# EAGLE library part LPC1778/88-LQFP208 (library microbuilder)
LPC1778/88 - ARM Cortex M3 - 120MHz, 512KB Flash, 96KB SRAM, 4KB EEPROM External Memory Controller LCD Controller 10/100 Ethernet USB 2.0 Host/Device/OTG 2 CAN 12-bit ADC 10-bit DAC SD/MMC I2S
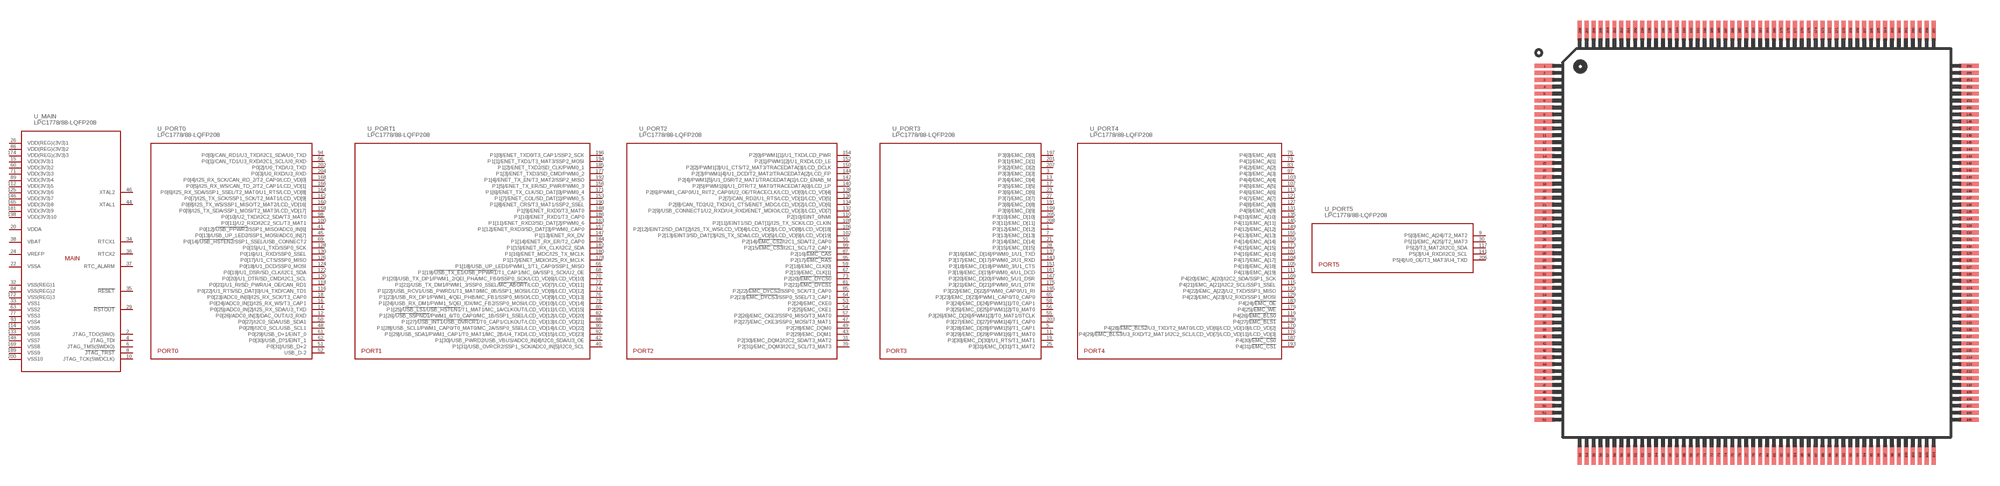
[diagram p133: symbol with the pads of LQFP208; footprint LQFP208]

Designator prefix U; gates _MAIN=LPC1788_PWR-208 _PORT0=LPC1788_PORT0-208 _PORT1=LPC1788_PORT1-208 _PORT2=LPC1788_PORT2-208 _PORT3=LPC1788_PORT3-208 _PORT4=LPC1788_PORT4-208 _PORT5=LPC1788_PORT5-208

## LPC1778/88-LQFP208  [LQFP208]
1  _PORT3:P3[12]/EMC_D[12]
2  _MAIN:JTAG_TDO(SWO)
3  _PORT3:P3[3]/EMC_D[3]
4  _MAIN:JTAG_TDI
5  _PORT3:P3[28]/EMC_D[28]/PWM1[5]/T1_CAP1
6  _MAIN:JTAG_TMS(SWDIO)
7  _PORT3:P3[13]/EMC_D[13]
8  _MAIN:!JTAG_TRST!
9  _PORT5:P5[0]/EMC_A[24]/T2_MAT2
10  _MAIN:JTAG_TCK(SWDCLK)
11  _PORT3:P3[29]/EMC_D[29]/PWM1[6]/T1_MAT0
12  _PORT0:P0[26]/ADC0_IN[3]/DAC_OUT/U3_RXD
13  _PORT3:P3[4]/EMC_D[4]
14  _PORT0:P0[25]/ADC0_IN[2]/I2S_RX_SDA/U3_TXD
15  _MAIN:VDD(3V3)1
16  _PORT0:P0[24]/ADC0_IN[1]/I2S_RX_WS/T3_CAP1
17  _PORT3:P3[5]/EMC_D[5]
18  _PORT0:P0[23]/ADC0_IN[0]/I2S_RX_SCK/T3_CAP0
19  _PORT3:P3[30]/EMC_D[30]/U1_RTS/T1_MAT1
20  _MAIN:VDDA
21  _PORT3:P3[14]/EMC_D[14]
22  _MAIN:VSSA
23  _PORT3:P3[6]/EMC_D[6]
24  _MAIN:VREFP
25  _PORT3:P3[31]/EMC_D[31]/T1_MAT2
26  _MAIN:VDD(REG)(3V3)1
27  _PORT3:P3[7]/EMC_D[7]
28  _PORT3:P3[15]/EMC_D[15]
29  _MAIN:!RSTOUT!
30  _PORT5:P5[1]/EMC_A[25]/T2_MAT3
31  _PORT2:P2[30]/EMC_DQM2/I2C2_SDA/T3_MAT2
32  _MAIN:VSS(REG)1
33  _MAIN:VSS1
34  _MAIN:RTCX1
35  _MAIN:!RESET!
36  _MAIN:RTCX2
37  _MAIN:RTC_ALARM
38  _MAIN:VBAT
39  _PORT2:P2[31]/EMC_DQM3/I2C2_SCL/T3_MAT3
40  _PORT1:P1[31]/USB_OVRCR2/SSP1_SCK/ADC0_IN[5]/I2C0_SCL
41  _PORT0:P0[12]/!USB_PPWR2!/SSP1_MISO/ADC0_IN[6]
42  _PORT1:P1[30]/USB_PWRD2/USB_VBUS/ADC0_IN[4]/I2C0_SDA/U3_OE
43  _PORT2:P2[29]/EMC_DQM1
44  _MAIN:XTAL1
45  _PORT0:P0[13]/USB_UP_LED2/SSP1_MOSI/ADC0_IN[7]
46  _MAIN:XTAL2
47  _PORT2:P2[27]/EMC_CKE3/SSP0_MOSI/T3_MAT1
48  _PORT0:P0[28]/I2C0_SCL/USB_SCL1
49  _PORT2:P2[28]/EMC_DQM0
50  _PORT0:P0[27]/I2C0_SDA/USB_SDA1
51  _PORT0:P0[31]/USB_D+2
52  _PORT0:USB_D-2
53  _PORT2:P2[24]/EMC_CKE0
54  _PORT2:P2[25]/EMC_CKE1
55  _PORT3:P3[26]/EMC_D[26]/PWM1[3]/T0_MAT1/STCLK
56  _PORT3:P3[25]/EMC_D[25]/PWM1[2]/T0_MAT0
57  _PORT2:P2[26]/EMC_CKE2/SSP0_MISO/T3_MAT0
58  _PORT3:P3[24]/EMC_D[24]/PWM1[1]/T0_CAP1
59  _PORT2:P2[18]/EMC_CLK[0]
60  _MAIN:VDD(3V3)2
61  _PORT0:P0[29]/USB_D+1/EINT_0
62  _PORT0:P0[30]/USB_D?1/EINT_1
63  _MAIN:VSS2
64  _PORT2:P2[23]/!EMC_DYCS3!/SSP0_SSEL/T3_CAP1
65  _PORT3:P3[23]/EMC_D[23]/PWM1_CAP0/T0_CAP0
66  _PORT1:P1[18]/USB_UP_LED1/PWM1_1/T1_CAP0/SSP1_MISO
67  _PORT2:P2[19]/EMC_CLK[1]
68  _PORT1:P1[19]/!USB_TX_E1!/!USB_PPWR1!/T1_CAP1/MC_0A/SSP1_SCK/U2_OE
69  _PORT0:P0[14]/!USB_HSTEN2!/SSP1_SSEL/USB_CONNECT2
70  _PORT1:P1[20]/USB_TX_DP1/PWM1_2/QEI_PHA/MC_FB0/SSP0_SCK/LCD_VD[6]/LCD_VD[10]
71  _MAIN:VDD(3V3)3
72  _PORT1:P1[21]/USB_TX_DM1/PWM1_3/SSP0_SSEL/!MC_ABORT!/LCD_VD[7]/LCD_VD[11]
73  _PORT2:P2[20]/!EMC_DYCS0!
74  _PORT1:P1[22]/USB_RCV1/USB_PWRD1/T1_MAT0/MC_0B/SSP1_MOSI/LCD_VD[8]/LCD_VD[12]
75  _PORT4:P4[0]/EMC_A[0]
76  _PORT1:P1[23]/USB_RX_DP1/PWM1_4/QEI_PHB/MC_FB1/SSP0_MISO/LCD_VD[9]/LCD_VD[13]
77  _MAIN:VSS3
78  _PORT1:P1[24]/USB_RX_DM1/PWM1_5/QEI_IDX/MC_FB2/SSP0_MOSI/LCD_VD[10]/LCD_VD[14]
79  _PORT4:P4[1]/EMC_A[1]
80  _PORT1:P1[25]/!USB_LS1!/!USB_HSTEN1!/T1_MAT1/MC_1A/CLKOUT/LCD_VD[11]/LCD_VD[15]
81  _PORT2:P2[21]/!EMC_DYCS1!
82  _PORT1:P1[26]/!USB_SSPND1!/PWM1_6/T0_CAP0/MC_1B/SSP1_SSEL/LCD_VD[12]/LCD_VD[20]
83  _PORT4:P4[2]/EMC_A[2]
84  _MAIN:VSS(REG)2
85  _PORT2:P2[22]/!EMC_DYCS2!/SSP0_SCK/T3_CAP0
86  _MAIN:VDD(REG)(3V3)2
87  _PORT2:P2[16]/!EMC_CAS!
88  _PORT1:P1[27]/!USB_INT1!/!USB_OVRCR1!/T0_CAP1/CLKOUT/LCD_VD[13]/LCD_VD[21]
89  _MAIN:VDD(3V3)4
90  _PORT1:P1[28]/USB_SCL1/PWM1_CAP0/T0_MAT0/MC_2A/SSP0_SSEL/LCD_VD[14]/LCD_VD[22]
91  _PORT2:P2[14]/!EMC_CS2!/I2C1_SDA/T2_CAP0
92  _PORT1:P1[29]/USB_SDA1/PWM1_CAP1/T0_MAT1/MC_2B/U4_TXD/LCD_VD[15]/LCD_VD[23]
93  _MAIN:VSS4
94  _PORT0:P0[0]/CAN_RD1/U3_TXD/I2C1_SDA/U0_TXD
95  _PORT2:P2[17]/!EMC_RAS!
96  _PORT0:P0[1]/CAN_TD1/U3_RXD/I2C1_SCL/U0_RXD
97  _PORT4:P4[3]/EMC_A[3]
98  _PORT0:P0[10]/U2_TXD/I2C2_SDA/T3_MAT0
99  _PORT2:P2[15/!EMC_CS3!/I2C1_SCL/T2_CAP1
100  _PORT0:P0[11]/U2_RXD/I2C2_SCL/T3_MAT1
101  _PORT4:P4[16]/EMC_A[16]
102  _PORT2:P2[13]/EINT3/SD_DAT[3]/I2S_TX_SDA/LCD_VD[5]/LCD_VD[9]/LCD_VD[19]
103  _PORT4:P4[4]/EMC_A[4]
104  _PORT4:P4[17]/EMC_A[17]
105  _PORT4:P4[18]/EMC_A[18]
106  _PORT2:P2[12]/EINT2/SD_DAT[2]/I2S_TX_WS/LCD_VD[4]/LCD_VD[3]/LCD_VD[8]/LCD_VD[18]
107  _PORT4:P4[5]/EMC_A[5]
108  _PORT2:P2[11]/EINT1/SD_DAT[1]/I2S_TX_SCK/LCD_CLKIN
109  _PORT4:P4[20]/EMC_A[20]/I2C2_SDA/SSP1_SCK
110  _PORT2:P2[10]/EINT_0/NMI
111  _PORT4:P4[19]/EMC_A[19]
112  _MAIN:VDD(3V3)5
113  _PORT4:P4[6]/EMC_A[6]
114  _MAIN:VSS5
115  _PORT4:P4[21]/EMC_A[21]/I2C2_SCL/SSP1_SSEL
116  _PORT0:P0[22]/U1_RTS/SD_DAT[0]/U4_TXD/CAN_TD1
117  _PORT5:P5[2]/T3_MAT2/I2C0_SDA
118  _PORT0:P0[21]/U1_RI/SD_PWR/U4_OE/CAN_RD1
119  _PORT4:P4[26]/!EMC_BLS0!
120  _PORT0:P0[20]/U1_DTR/SD_CMD/I2C1_SCL
121  _PORT4:P4[7]/EMC_A[7]
122  _PORT0:P0[19]/U1_DSR/SD_CLK/I2C1_SDA
123  _PORT4:P4[22]/EMC_A[22]/U2_TXD/SSP1_MISO
124  _PORT0:P0[18]/U1_DCD/SSP0_MOSI
125  _MAIN:VDD(3V3)6
126  _PORT0:P0[17]/U1_CTS/SSP0_MISO
127  _PORT4:P4[8]/EMC_A[8]
128  _PORT0:P0[15]/U1_TXD/SSP0_SCK
129  _PORT4:P4[23]/EMC_A[23]/U2_RXD/SSP1_MOSI
130  _PORT0:P0[16]/U1_RXD/SSP0_SSEL
131  _PORT4:P4[9]/EMC_A[9]
132  _PORT2:P2[9]/USB_CONNECT1/U2_RXD/U4_RXD/ENET_MDIO/LCD_VD[3]/LCD_VD[7]
133  _MAIN:VSS6
134  _PORT2:P2[8]/CAN_TD2/U2_TXD/U1_CTS/ENET_MDC/LCD_VD[2]/LCD_VD[6]
135  _PORT4:P4[10]/EMC_A[10]
136  _PORT2:P2[7]/CAN_RD2/U1_RTS/LCD_VD[1]/LCD_VD[5]
137  _PORT3:P3[16]/EMC_D[16]/PWM0_1/U1_TXD
138  _PORT2:P2[6]/PWM1_CAP0/U1_RI/T2_CAP0/U2_OE/TRACECLK/LCD_VD[0]/LCD_VD[4]
139  _PORT4:P4[27]/!EMC_BLS1!
140  _PORT2:P2[5]/PWM1[6]/U1_DTR/T2_MAT0/TRACEDATA[0]/LCD_LP
141  _PORT5:P5[3]/U4_RXD/I2C0_SCL
142  _PORT2:P2[4]/PWM1[5]/U1_DSR/T2_MAT1/TRACEDATA[1]/LCD_ENAB_M
143  _PORT3:P3[17]/EMC_D[17]/PWM0_2/U1_RXD
144  _PORT2:P2[3]/PWM1[4]/U1_DCD/T2_MAT2/TRACEDATA[2]/LCD_FP
145  _PORT4:P4[11]/EMC_A[11]
146  _MAIN:VDD(3V3)7
147  _PORT1:P1[13]/ENET_RX_DV
148  _MAIN:VSS7
149  _PORT4:P4[12]/EMC_A[12]
150  _PORT2:P2[2]/PWM1[3]/U1_CTS/T2_MAT3/TRACEDATA[3]/LCD_DCLK
151  _PORT3:P3[18]/EMC_D[18]/PWM0_3/U1_CTS
152  _PORT2:P2[1]/PWM1[2]/U1_RXD/LCD_LE
153  _PORT1:P1[7]/ENET_COL/SD_DAT[1]/PWM0_5
154  _PORT2:P2[0]/PWM1[1]/U1_TXD/LCD_PWR
155  _PORT4:P4[13]/EMC_A[13]
156  _PORT1:P1[5]/ENET_TX_ER/SD_PWR/PWM0_3
157  _PORT1:P1[12]/ENET_RXD3/SD_DAT[3]/PWM0_CAP0
158  _PORT0:P0[9]/I2S_TX_SDA/SSP1_MOSI/T2_MAT3/LCD_VD[17]
159  _PORT4:P4[14]/EMC_A[14]
160  _PORT0:P0[8]/I2S_TX_WS/SSP1_MISO/T2_MAT2/LCD_VD[16]
161  _PORT3:P3[19]/EMC_D[19]/PWM0_4/U1_DCD
162  _PORT0:P0[7]/I2S_TX_SCK/SSP1_SCK/T2_MAT1/LCD_VD[9]
163  _PORT1:P1[11]/ENET_RXD2/SD_DAT[2]/PWM0_6
164  _PORT0:P0[6]/I2S_RX_SDA/SSP1_SSEL/T2_MAT0/U1_RTS/LCD_VD[8]
165  _MAIN:VDD(3V3)8
166  _PORT0:P0[5]/I2S_RX_WS/CAN_TD_2/T2_CAP1/LCD_VD[1]
167  _PORT3:P3[20]/EMC_D[20]/PWM0_5/U1_DSR
168  _PORT0:P0[4]/I2S_RX_SCK/CAN_RD_2/T2_CAP0/LCD_VD[0]
169  _MAIN:VSS8
170  _PORT4:P4[28]/!EMC_BLS2!/U3_TXD/T2_MAT0/LCD_VD[6]/LCD_VD[10]/LCD_VD[2]
171  _PORT1:P1[6]/ENET_TX_CLK/SD_DAT[0]/PWM0_4
172  _MAIN:VSS(REG)3
173  _PORT4:P4[15]/EMC_A[15]
174  _MAIN:VDD(REG)(3V3)3
175  _PORT3:P3[21]/EMC_D[21]/PWM0_6/U1_DTR
176  _PORT4:P4[29]/!EMC_BLS3!/U3_RXD/T2_MAT1/I2C2_SCL/LCD_VD[7]/LCD_VD[11]/LCD_VD[3]
177  _PORT1:P1[3]/ENET_TXD3/SD_CMD/PWM0_2
178  _PORT1:P1[17]/ENET_MDIO/I2S_RX_MCLK
179  _PORT4:P4[25]/!EMC_WE!
180  _PORT1:P1[16]/ENET_MDC/I2S_TX_MCLK
181  _MAIN:VDD(3V3)9
182  _PORT1:P1[15]/ENET_RX_CLK/I2C2_SDA
183  _PORT4:P4[24]/!EMC_OE!
184  _PORT1:P1[14]/ENET_RX_ER/T2_CAP0
185  _PORT1:P1[2]/ENET_TXD2/SD_CLK/PWM0_1
186  _PORT1:P1[10]/ENET_RXD1/T3_CAP0
187  _PORT4:P4[30]/!EMC_CS0!
188  _PORT1:P1[9]/ENET_RXD0/T3_MAT0
189  _MAIN:VSS9
190  _PORT1:P1[8]/ENET_CRS/T3_MAT1/SSP2_SSEL
191  _PORT3:P3[8]/EMC_D[8]
192  _PORT1:P1[4]/ENET_TX_EN/T3_MAT2/SSP2_MISO
193  _PORT4:P4[31]/!EMC_CS1!
194  _PORT1:P1[1]/ENET_TXD1/T3_MAT3/SSP2_MOSI
195  _PORT3:P3[22]/EMC_D[22]/PWM0_CAP0/U1_RI
196  _PORT1:P1[0]/ENET_TXD0/T3_CAP1/SSP2_SCK
197  _PORT3:P3[0]/EMC_D[0]
198  _MAIN:VDD(3V3)10
199  _PORT3:P3[9]/EMC_D[9]
200  _MAIN:VSS10
201  _PORT3:P3[1]/EMC_D[1]
202  _PORT0:P0[2]/U0_TXD/U3_TXD
203  _PORT3:P3[27]/EMC_D[27]/PWM1[4]/T1_CAP0
204  _PORT0:P0[3]/U0_RXD/U3_RXD
205  _PORT3:P3[10]/EMC_D[10]
206  _PORT5:P5[4]/U0_OE/T3_MAT3/U4_TXD
207  _PORT3:P3[2]/EMC_D[2]
208  _PORT3:P3[11]/EMC_D[11]

## Footprint LQFP208 (pad centres in mm)
smd 1.4 x 0.29: 1 -15.3,12.75; 2 -15.3,12.25; 3 -15.3,11.75; 4 -15.3,11.25; 5 -15.3,10.75; 6 -15.3,10.25; 7 -15.3,9.75; 8 -15.3,9.25; 9 -15.3,8.75; 10 -15.3,8.25; 11 -15.3,7.75; 12 -15.3,7.25; 13 -15.3,6.75; 14 -15.3,6.25; 15 -15.3,5.75; 16 -15.3,5.25; 17 -15.3,4.75; 18 -15.3,4.25; 19 -15.3,3.75; 20 -15.3,3.25; 21 -15.3,2.75; 22 -15.3,2.25; 23 -15.3,1.75; 24 -15.3,1.25; 25 -15.3,0.75; 26 -15.3,0.25; 27 -15.3,-0.25; 28 -15.3,-0.75; 29 -15.3,-1.25; 30 -15.3,-1.75; 31 -15.3,-2.25; 32 -15.3,-2.75; 33 -15.3,-3.25; 34 -15.3,-3.75; 35 -15.3,-4.25; 36 -15.3,-4.75; 37 -15.3,-5.25; 38 -15.3,-5.75; 39 -15.3,-6.25; 40 -15.3,-6.75; 41 -15.3,-7.25; 42 -15.3,-7.75; 43 -15.3,-8.25; 44 -15.3,-8.75; 45 -15.3,-9.25; 46 -15.3,-9.75; 47 -15.3,-10.25; 48 -15.3,-10.75; 49 -15.3,-11.25; 50 -15.3,-11.75; 51 -15.3,-12.25; 52 -15.3,-12.75; 105 15.3,-12.75; 106 15.3,-12.25; 107 15.3,-11.75; 108 15.3,-11.25; 109 15.3,-10.75; 110 15.3,-10.25; 111 15.3,-9.75; 112 15.3,-9.25; 113 15.3,-8.75; 114 15.3,-8.25; 115 15.3,-7.75; 116 15.3,-7.25; 117 15.3,-6.75; 118 15.3,-6.25; 119 15.3,-5.75; 120 15.3,-5.25; 121 15.3,-4.75; 122 15.3,-4.25; 123 15.3,-3.75; 124 15.3,-3.25; 125 15.3,-2.75; 126 15.3,-2.25; 127 15.3,-1.75; 128 15.3,-1.25; 129 15.3,-0.75; 130 15.3,-0.25; 131 15.3,0.25; 132 15.3,0.75; 133 15.3,1.25; 134 15.3,1.75; 135 15.3,2.25; 136 15.3,2.75; 137 15.3,3.25; 138 15.3,3.75; 139 15.3,4.25; 140 15.3,4.75; 141 15.3,5.25; 142 15.3,5.75; 143 15.3,6.25; 144 15.3,6.75; 145 15.3,7.25; 146 15.3,7.75; 147 15.3,8.25; 148 15.3,8.75; 149 15.3,9.25; 150 15.3,9.75; 151 15.3,10.25; 152 15.3,10.75; 153 15.3,11.25; 154 15.3,11.75; 155 15.3,12.25; 156 15.3,12.75
smd 0.29 x 1.4: 53 -12.75,-15.3; 54 -12.25,-15.3; 55 -11.75,-15.3; 56 -11.25,-15.3; 57 -10.75,-15.3; 58 -10.25,-15.3; 59 -9.75,-15.3; 60 -9.25,-15.3; 61 -8.75,-15.3; 62 -8.25,-15.3; 63 -7.75,-15.3; 64 -7.25,-15.3; 65 -6.75,-15.3; 66 -6.25,-15.3; 67 -5.75,-15.3; 68 -5.25,-15.3; 69 -4.75,-15.3; 70 -4.25,-15.3; 71 -3.75,-15.3; 72 -3.25,-15.3; 73 -2.75,-15.3; 74 -2.25,-15.3; 75 -1.75,-15.3; 76 -1.25,-15.3; 77 -0.75,-15.3; 78 -0.25,-15.3; 79 0.25,-15.3; 80 0.75,-15.3; 81 1.25,-15.3; 82 1.75,-15.3; 83 2.25,-15.3; 84 2.75,-15.3; 85 3.25,-15.3; 86 3.75,-15.3; 87 4.25,-15.3; 88 4.75,-15.3; 89 5.25,-15.3; 90 5.75,-15.3; 91 6.25,-15.3; 92 6.75,-15.3; 93 7.25,-15.3; 94 7.75,-15.3; 95 8.25,-15.3; 96 8.75,-15.3; 97 9.25,-15.3; 98 9.75,-15.3; 99 10.25,-15.3; 100 10.75,-15.3; 101 11.25,-15.3; 102 11.75,-15.3; 103 12.25,-15.3; 104 12.75,-15.3; 157 12.75,15.3; 158 12.25,15.3; 159 11.75,15.3; 160 11.25,15.3; 161 10.75,15.3; 162 10.25,15.3; 163 9.75,15.3; 164 9.25,15.3; 165 8.75,15.3; 166 8.25,15.3; 167 7.75,15.3; 168 7.25,15.3; 169 6.75,15.3; 170 6.25,15.3; 171 5.75,15.3; 172 5.25,15.3; 173 4.75,15.3; 174 4.25,15.3; 175 3.75,15.3; 176 3.25,15.3; 177 2.75,15.3; 178 2.25,15.3; 179 1.75,15.3; 180 1.25,15.3; 181 0.75,15.3; 182 0.25,15.3; 183 -0.25,15.3; 184 -0.75,15.3; 185 -1.25,15.3; 186 -1.75,15.3; 187 -2.25,15.3; 188 -2.75,15.3; 189 -3.25,15.3; 190 -3.75,15.3; 191 -4.25,15.3; 192 -4.75,15.3; 193 -5.25,15.3; 194 -5.75,15.3; 195 -6.25,15.3; 196 -6.75,15.3; 197 -7.25,15.3; 198 -7.75,15.3; 199 -8.25,15.3; 200 -8.75,15.3; 201 -9.25,15.3; 202 -9.75,15.3; 203 -10.25,15.3; 204 -10.75,15.3; 205 -11.25,15.3; 206 -11.75,15.3; 207 -12.25,15.3; 208 -12.75,15.3